# Altium schematic symbol library Components.SchLib: 9 symbols
Pins are listed as number, name and electrical type; pins without a type are passive.

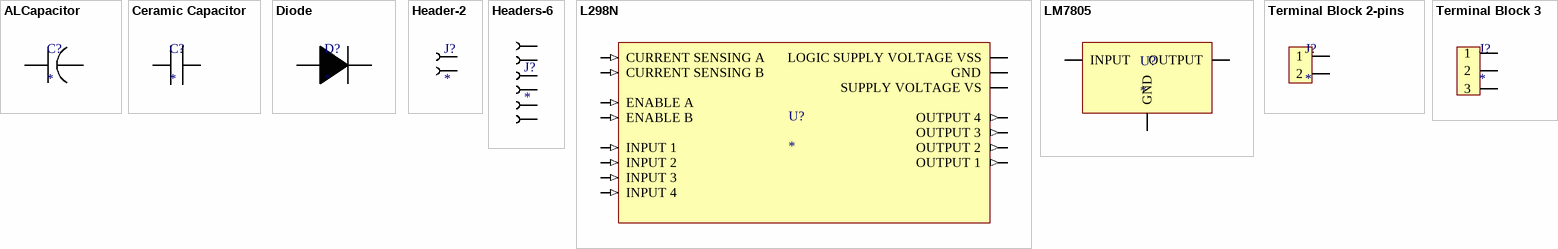
[diagram p0: symbols ALCapacitor to Terminal Block 3]

## ALCapacitor
designator C?
Value: *
footprint ALCap.
pins: 1 6, 2 7

## Ceramic Capacitor
designator C?
footprint Ceramic Cap
pins: 1, 2

## Diode
designator D?
MF PN: 2A07; MF: *; Supplier: Electra; Supplier PN: 2A07; ComponentLink1Description: New link; ComponentLink1URL: https://electra.store/product/2a07-700v-2a-diode/
footprint 2A07
pins: 1  , 2  

## Header-2
designator J?
footprint Headers 2-Pins
pins: 1  , 2  

## Headers-6
designator J?
footprint Headers 6-pins
pins: 1  , 2  , 3  , 4  , 5  , 6  

## L298N
designator U?
PN: L298N; Supplier: Electra; Supplier PN: *; MF: *; ComponentLink1Description: Link; ComponentLink1URL: https://electra.store/product/l298-dip-dual-full-bridge-driver/
footprint L298N
pins: 1 CURRENT SENSING A (in), 2 OUTPUT 1 (out), 3 OUTPUT 2 (out), 4 SUPPLY VOLTAGE VS (power), 5 INPUT 1 (in), 6 ENABLE A (in), 7 INPUT 2 (in), 8 GND (power), 9 LOGIC SUPPLY VOLTAGE VSS (power), 10 INPUT 3 (in), 11 ENABLE B (in), 12 INPUT 4 (in), 13 OUTPUT 3 (out), 14 OUTPUT 4 (out), 15 CURRENT SENSING B (in)

## LM7805
designator U?
PN: LM7805; Supplier: Makers; ComponentLink1Description: link; ComponentLink1URL: https://makerselectronics.com/product/regelator-7805
footprint LM7805
pins: 1 INPUT (power), 2 GND (power), 3 OUTPUT (power)

## Terminal Block 2-pins
designator J?
PN: 1935161; MF: Phoenix Contact; Supplier: Digikey; Supplier PN: 277-1667-ND
footprint Terminal Block 2-pins (Throwhole)
footprint Terminal Block 2 Plugable
pins: 1, 2

## Terminal Block 3
designator J?
footprint Terminal Block 3
footprint Terminal Block 3
pins: 1, 2, 3